# Altium schematic symbol library ic-power-switchmode.SchLib: 18 symbols
Pins are listed as number, name and electrical type; pins without a type are passive.

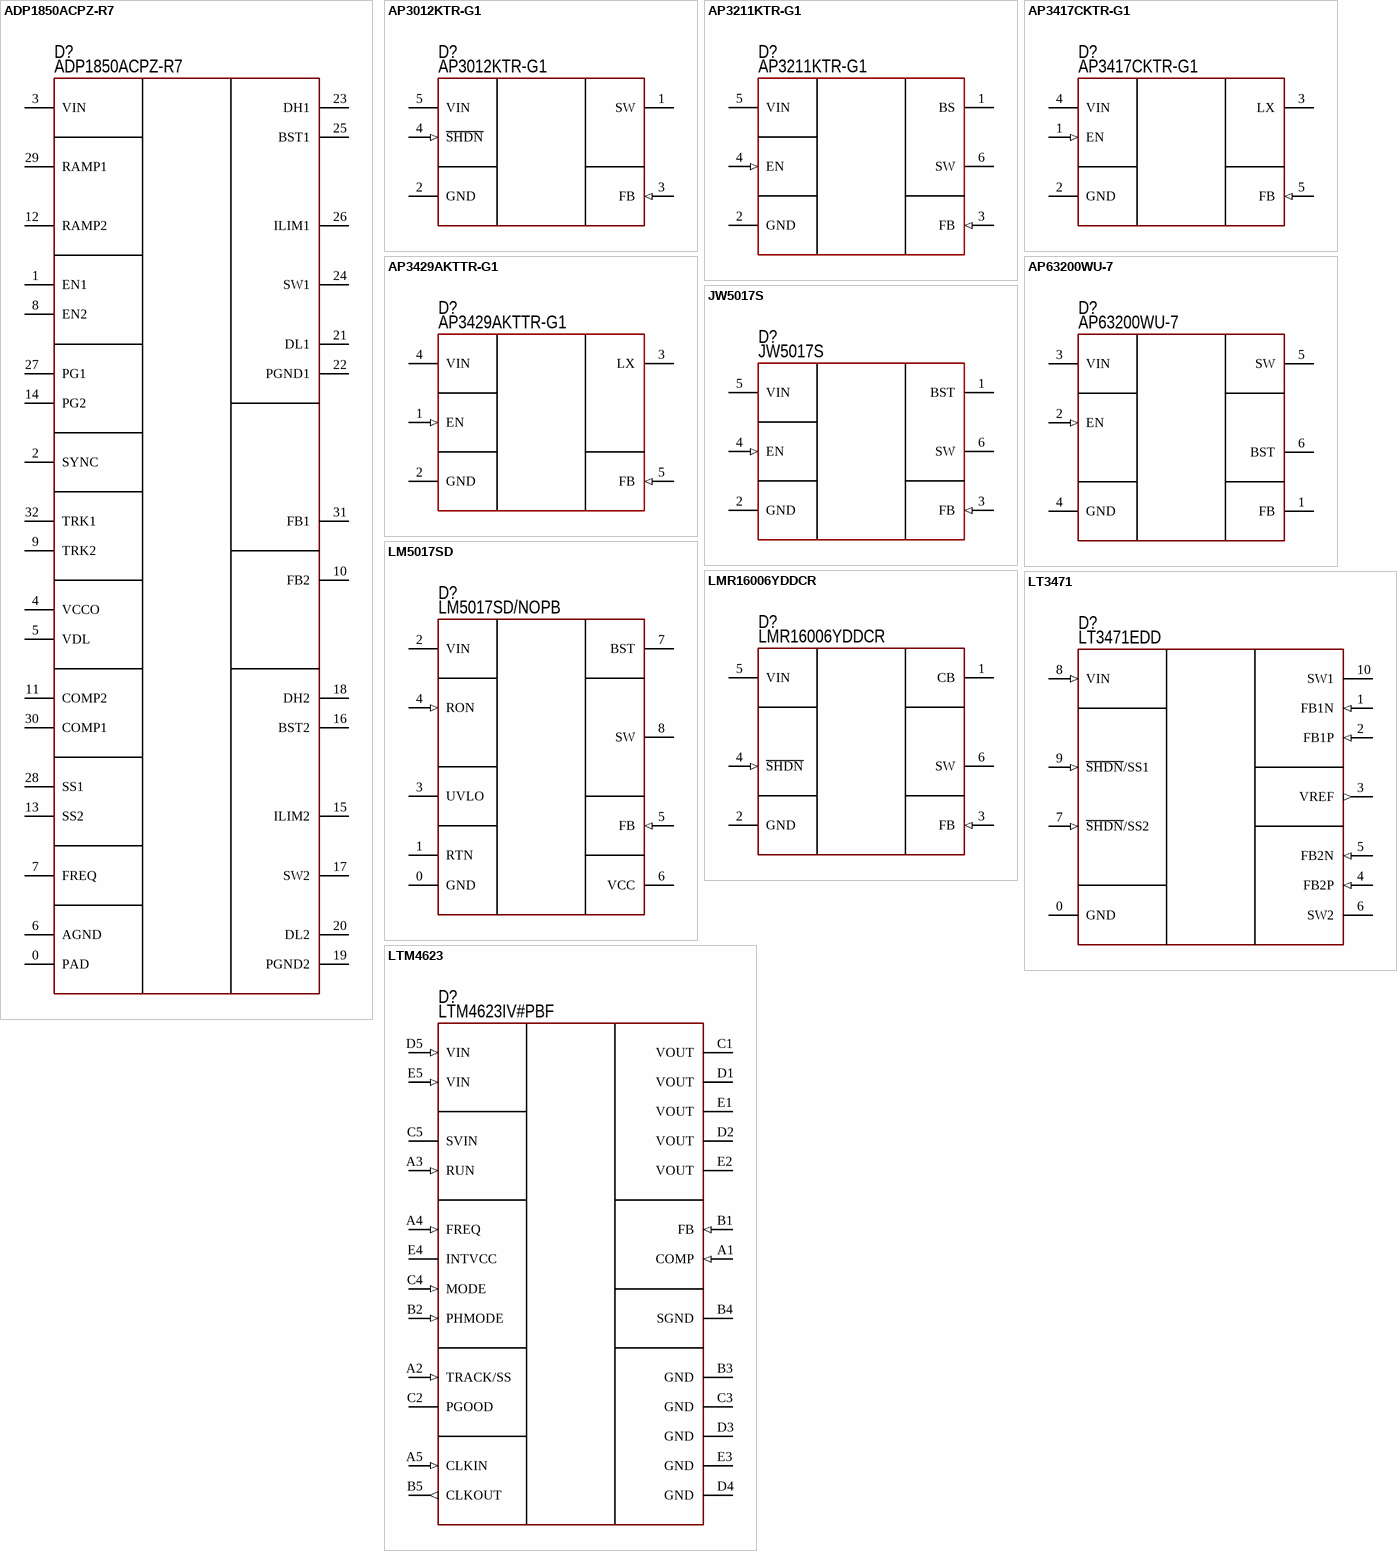
[diagram p0: symbols ADP1850ACPZ-R7 to LTM4623]

## ADP1850ACPZ-R7
designator D?  PartNumber: ADP1850ACPZ-R7
2 phase buck; Manufacturer: Analog Devices; ValueManufacturerPartNumber: DC/DC buck converter, input 2.75...20V, 200...1500 kHz, output 0.6...17V, 2 phase, -40...+85°C, 32-VFQFN (5x5); VoltageInput: input 2.75...20V; Frequency: 200...1500 kHz; CurrentOutput: 2 phase; VoltageOutput: output 0.6...17V; HelpURL: https://www.digikey.com/product-detail/en/analog-devices-inc/ADP1850ACPZ-R7/ADP1850ACPZ-R7CT-ND/2609853; Package: 32-VFQFN (5x5); ComponentType: DC/DC buck converter; Temperature: -40...+85°C
footprint 32-QFN (5x5 mm, pitch 0.5 mm, power pad)
pins: 0 PAD, 1 EN1, 2 SYNC, 3 VIN, 4 VCCO, 5 VDL, 6 AGND, 7 FREQ, 8 EN2, 9 TRK2, 10 FB2, 11 COMP2, 12 RAMP2, 13 SS2, 14 PG2, 15 ILIM2, 16 BST2, 17 SW2, 18 DH2, 19 PGND2, 20 DL2, 21 DL1, 22 PGND1, 23 DH1, 24 SW1, 25 BST1, 26 ILIM1, 27 PG1, 28 SS1, 29 RAMP1, 30 COMP1, 31 FB1, 32 TRK1

## AP3012KTR-G1
designator D?  PartNumber: AP3012KTR-G1
Boost converter; Manufacturer: Diodes Incorporated; ValueManufacturerPartNumber: DC/DC boost converter, input 2.6...16V, 1.5MHz, output 3...29V, 0.5A, -40...+85°C, SOT23-5; VoltageInput: input 2.6...16V; Frequency: 1.5MHz; CurrentOutput: 0.5A; VoltageOutput: output 3...29V; HelpURL: https://www.digikey.com/product-detail/en/diodes-incorporated/AP3012KTR-G1/AP3012KTR-G1DICT-ND/4505297; Package: SOT23-5; ComponentType: DC/DC boost converter; Temperature: -40...+85°C
footprint SOT23-5 (pitch 0.95 mm)
pins: 1 SW, 2 GND, 3 FB (in), 4 ~{SHDN} (in), 5 VIN

## AP3211KTR-G1
designator D?  PartNumber: AP3211KTR-G1
Buck converter; Manufacturer: Diodes Incorporated; ValueManufacturerPartNumber: DC/DC buck converter, input 4.5...18V, 1.4MHz, output 0.81...15V, 1.5A, -40...+85°C, SOT23-6; VoltageInput: input 4.5...18V; Frequency: 1.4MHz; CurrentOutput: 1.5A; VoltageOutput: output 0.81...15V; HelpURL: https://www.digikey.com/product-detail/en/diodes-incorporated/AP3211KTR-G1/AP3211KTR-G1DICT-ND/4505305; Package: SOT23-6; ComponentType: DC/DC buck converter; Temperature: -40...+85°C
footprint SOT23-6 (pitch 0.95 mm)
pins: 1 BS, 2 GND, 3 FB (in), 4 EN (in), 5 VIN, 6 SW

## AP3417CKTR-G1
designator D?  PartNumber: AP3417CKTR-G1
Buck converter; Manufacturer: Diodes Incorporated; ValueManufacturerPartNumber: DC/DC buck converter, input 2.5...5.5V, 1.5MHz, output 0.6...4.95V, 1A, -40...+85°C, SOT23-5; VoltageInput: input 2.5...5.5V; Frequency: 1.5MHz; CurrentOutput: 1A; VoltageOutput: output 0.6...4.95V; HelpURL: https://www.digikey.com/product-detail/en/diodes-incorporated/AP3417CKTR-G1/AP3417CKTR-G1DICT-ND/4505308; Package: SOT23-5; ComponentType: DC/DC buck converter; Temperature: -40...+85°C
footprint SOT23-6 (pitch 0.95 mm)
pins: 1 EN (in), 2 GND, 3 LX, 4 VIN, 5 FB (in)

## AP3429AKTTR-G1
designator D?  PartNumber: AP3429AKTTR-G1
Buck converter; Manufacturer: Diodes Incorporated; ValueManufacturerPartNumber: DC/DC buck converter, input 2.7...5.5V, 1MHz, output 0.6...5V, 2A, -40...+85°C, SOT23-6; VoltageInput: input 2.7...5.5V; Frequency: 1MHz; CurrentOutput: 2A; VoltageOutput: output 0.6...5V; HelpURL: https://www.digikey.com/product-detail/en/diodes-incorporated/AP3429AKTTR-G1/AP3429AKTTR-G1DICT-ND/5359842; Package: SOT23-6; ComponentType: DC/DC buck converter; Temperature: -40...+85°C
footprint SOT23-6 (pitch 0.95 mm)
pins: 1 EN (in), 2 GND, 3 LX, 4 VIN, 5 FB (in)

## AP63200WU-7
designator D?  PartNumber: AP63200WU-7
Buck converter; Manufacturer: Diodes; ValueManufacturerPartNumber: DC/DC buck converter, input 3.8...32V, 500kHz, output 1.2...12V, 2A, -40...+85°C, SOT23-6; VoltageInput: input 3.8...32V; Frequency: 500kHz; CurrentOutput: 2A; VoltageOutput: output 1.2...12V; HelpURL: https://www.digikey.com/en/products/detail/diodes-incorporated/AP63200WU-7/9858423; Package: SOT23-6; ComponentType: DC/DC buck converter; Temperature: -40...+85°C
footprint SOT23-6 (pitch 0.95 mm)
pins: 1 FB, 2 EN (in), 3 VIN, 4 GND, 5 SW, 6 BST

## JW5017S
designator D?  PartNumber: JW5017S
Buck converter; Manufacturer: JoulWatt; ValueManufacturerPartNumber: DC/DC buck converter, input 4.5...26V, 1.2MHz, output 0.8...24V, 1.2A, -40...+85°C, SOT23-6; VoltageInput: input 4.5...26V; Frequency: 1.2MHz; CurrentOutput: 1.2A; VoltageOutput: output 0.8...24V; HelpURL: https://lcsc.com/product-detail/DC-DC-Converters_JoulWatt-Tech-JW5017S_C371172.html; Package: SOT23-6; ComponentType: DC/DC buck converter; Temperature: -40...+85°C
footprint SOT23-6 (pitch 0.95 mm)
pins: 1 BST, 2 GND, 3 FB (in), 4 EN (in), 5 VIN, 6 SW

## LM5017SD
designator D?  PartNumber: LM5017SD/NOPB
Buck converter; Manufacturer: Texas Instruments; ValueManufacturerPartNumber: DC/DC buck converter, input 7.5...100V, 1MHz, output 1.225...90V, 0.6A, -40...+125°C, 8-WSON; VoltageInput: input 7.5...100V; Frequency: 1MHz; CurrentOutput: 0.6A; VoltageOutput: output 1.225...90V; HelpURL: https://www.digikey.com/product-detail/en/texas-instruments/LM5017SD-NOPB/LM5017SD-NOPBCT-ND/3137455; Package: 8-WSON; ComponentType: DC/DC buck converter; Temperature: -40...+125°C
footprint 8-WSON (4x4) (4x4 mm, pitch 0.8 mm, power pad)
pins: 0 GND, 1 RTN, 2 VIN, 3 UVLO, 4 RON (in), 5 FB (in), 6 VCC, 7 BST, 8 SW

## LMR16006YDDCR
designator D?  PartNumber: LMR16006YDDCR
Buck converter; Manufacturer: Texas Instruments; ValueManufacturerPartNumber: DC/DC buck converter, input 4...60V, 2.1MHz, output 0.765...55V, 0.6A, -40...+125°C, SOT23-6; VoltageInput: input 4...60V; Frequency: 2.1MHz; CurrentOutput: 0.6A; VoltageOutput: output 0.765...55V; HelpURL: https://www.digikey.com/en/products/detail/texas-instruments/LMR16006YDDCR/5034007; Package: SOT23-6; ComponentType: DC/DC buck converter; Temperature: -40...+125°C
footprint SOT23-6 (pitch 0.95 mm)
pins: 1 CB, 2 GND, 3 FB (in), 4 ~{SHDN} (in), 5 VIN, 6 SW

## LT3471
designator D?  PartNumber: LT3471EDD
1.3A, 1.2MHz , Dual Switching Regulator; Manufacturer: Analog Devices; ValueManufacturerPartNumber: Boost, Inverting, 2.4...16V, 1.2MHz, 2.4...40V, 1.3 A, -40...+85°C, DFN-10; VoltageInput: 2.4...16V; VoltageOutput: 2.4...40V; HelpURL: https://eu.mouser.com/ProductDetail/Analog-Devices/LT3471EDDTRPBF?qs=hVkxg5c3xu9cs7a23C8URQ%3D%3D; Package: DFN-10; ComponentType: Boost, Inverting; Temperature: -40...+85°C; Frequency: 1.2MHz; CurrentOutput: 1.3 A
footprint 10-DFN (0.5P 3.0X3.0 175X248S) (SON, 0.50mm Pitch; 10-pin, 3.00mm W  X 3.00mm L X 0.80mm H Body, (w/thermal tab 1.75 X 2.48 mm), IPC Medium Density)
pins: 0 GND, 1 FB1N (in), 2 FB1P (in), 3 VREF (out), 4 FB2P (in), 5 FB2N (in), 6 SW2 (oc), 7 ~{SHDN}/SS2 (in), 8 VIN (in), 9 ~{SHDN}/SS1 (in), 10 SW1 (oc)

## LTM4623
designator D?  PartNumber: LTM4623IV#PBF
4V-20V to 0.6V-5.5V, Iout 3A Step-Down DC/DC uModule Regulator; Manufacturer: Analog Devices; ValueManufacturerPartNumber: DC/DC uModule, input 4...20V, 1 MHz, output 0.6...5.5V, 3A, -40...+125°C, LGA-25; VoltageInput: input 4...20V; Frequency: 1 MHz; VoltageOutput: output 0.6...5.5V; HelpURL: https://www.mouser.co.uk/ProductDetail/Analog-Devices/LTM4623IVPBF?qs=hVkxg5c3xu%2Fq41J5XRbt5g%3D%3D; Package: LGA-25; ComponentType: DC/DC uModule; Temperature: -40...+125°C; CurrentOutput: 3A
footprint LGA25C127P5X5_625X625X192 (LGA, 1.27mm Pitch, Square; 25 Pin, 5 Columns X 5 Rows, 6.25mm X 6.25mm X 1.92mm H)
footprint BGA25C127P5X5_625X625X262 (BGA, 1.27mm Pitch, Square; 25 Pin, 5 Columns X 5 Rows, 6.25mm X 6.25mm X 2.62mm H)
pins: A1 COMP (in), A2 TRACK/SS (in), A3 RUN (in), A4 FREQ (in), A5 CLKIN (in), B1 FB (in), B2 PHMODE (in), B3 GND (power), B4 SGND (power), B5 CLKOUT (out), C1 VOUT (power), C2 PGOOD (oc), C3 GND (power), C4 MODE (in), C5 SVIN (power), D1 VOUT (power), D2 VOUT (power), D3 GND (power), D4 GND (power), D5 VIN (in), E1 VOUT (power), E2 VOUT (power), E3 GND (power), E4 INTVCC (power), E5 VIN (in)

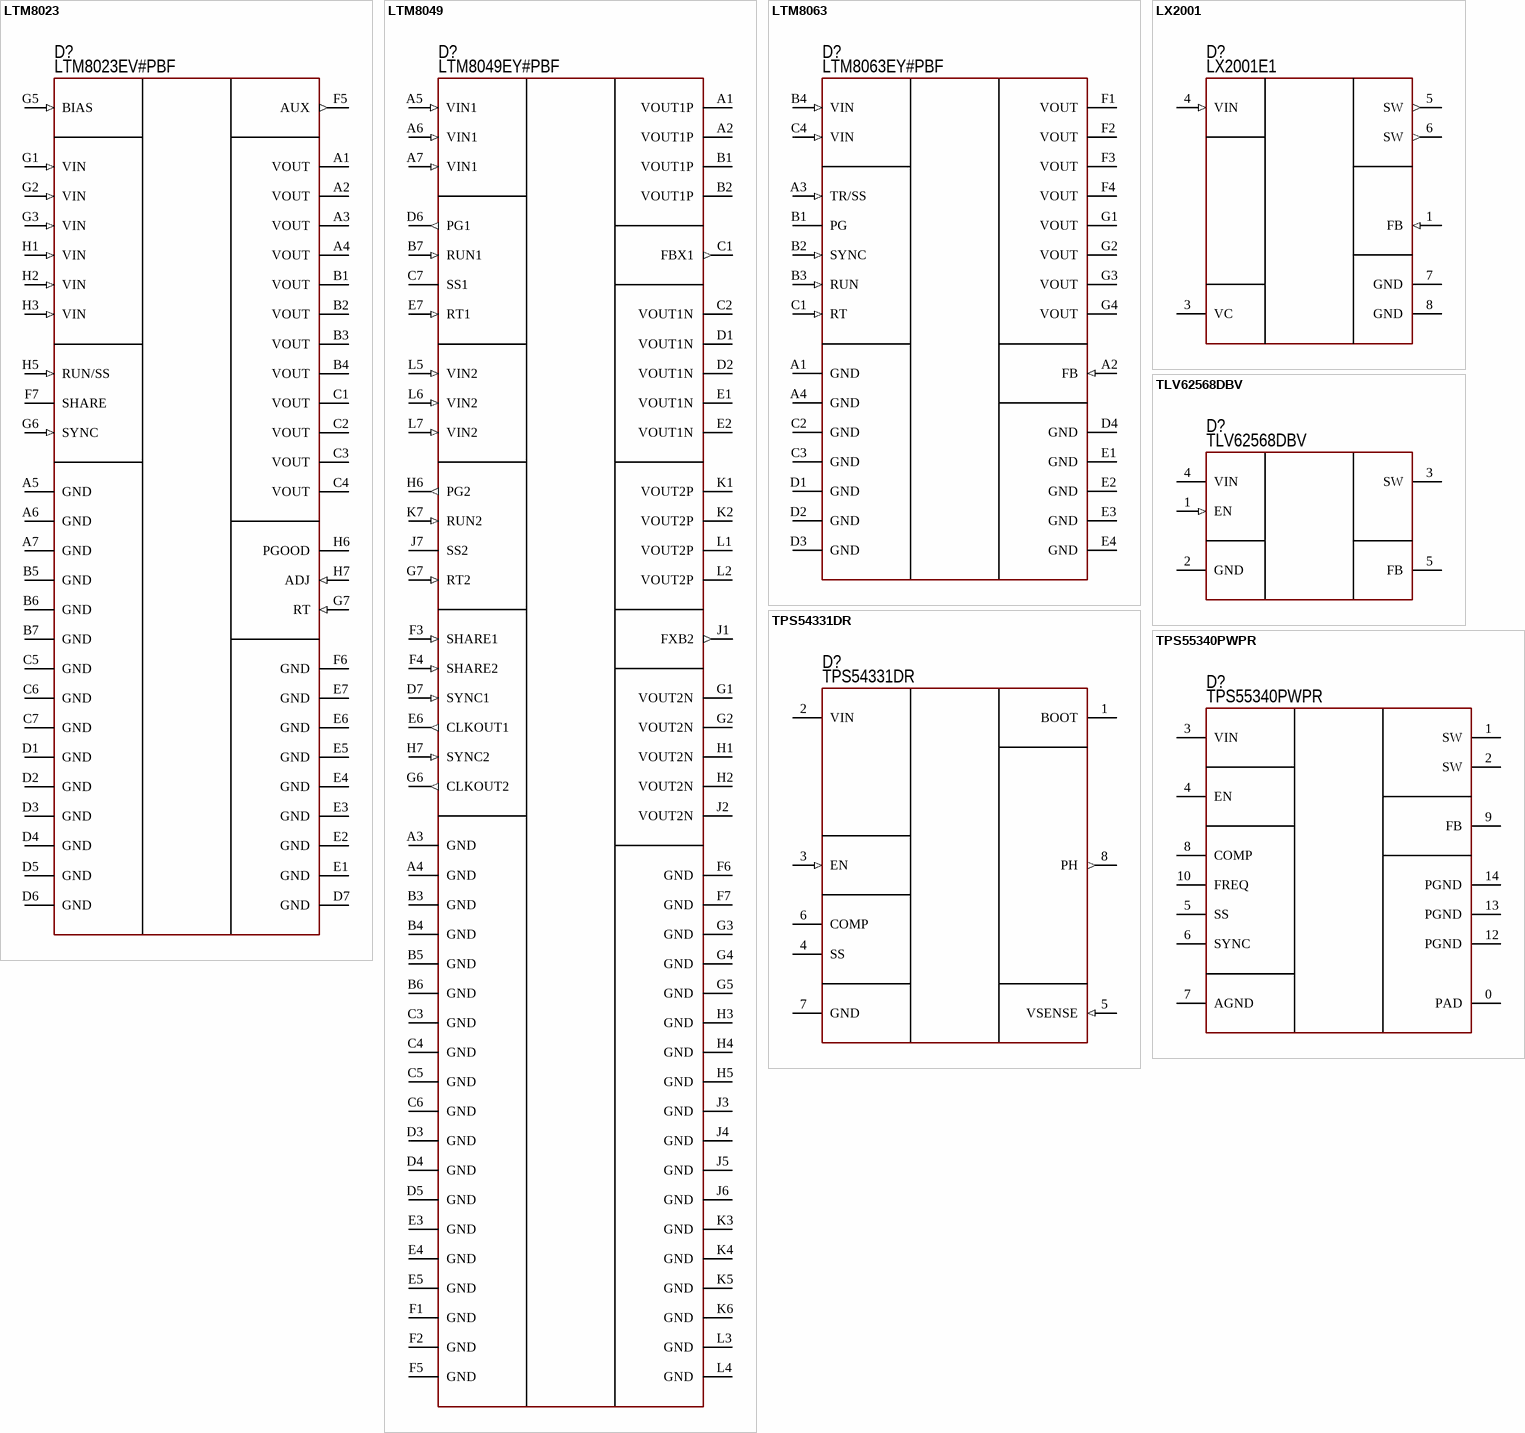
[diagram p1: symbols LTM8023 to TPS55340PWPR]

## LTM8023
designator D?  PartNumber: LTM8023EV#PBF
3.6V-36V To 0.8V-10V, Iout 2A DC/DC uModule; Manufacturer: Analog Devices; ValueManufacturerPartNumber: DC/DC uModule, input 3.6...36V, 200...2400 kHz, output 0.8...10V, 2A, -40...+85°C, LGA-50; VoltageInput: input 3.6...36V; Frequency: 200...2400 kHz; VoltageOutput: output 0.8...10V; HelpURL: https://www.mouser.co.uk/ProductDetail/Analog-Devices/LTM8023IVPBF?qs=hVkxg5c3xu9yNEfdTpM1tw%3D%3D; Package: LGA-50; ComponentType: DC/DC uModule; Temperature: -40...+85°C; CurrentOutput: 2A
footprint LGA50S127P7X8_900X1125X292 (LGA, 1.27mm pitch,rect.; 50 pin,7 columns X 8 rows, 9.00mm X 11.25mm X 2.92mm H)
footprint BGA50C127P7X8_900X1125X362 (BGA, 1.27mm Pitch, rectangular; 50 Pin, 7 Columns X 8 Rows,9.00mm X 11.25mm X 3.62mm H)
pins: A1 VOUT (power), A2 VOUT (power), A3 VOUT (power), A4 VOUT (power), A5 GND (power), A6 GND (power), A7 GND (power), B1 VOUT (power), B2 VOUT (power), B3 VOUT (power), B4 VOUT (power), B5 GND (power), B6 GND (power), B7 GND (power), C1 VOUT (power), C2 VOUT (power), C3 VOUT (power), C4 VOUT (power), C5 GND (power), C6 GND (power), C7 GND (power), D1 GND (power), D2 GND (power), D3 GND (power), D4 GND (power), D5 GND (power), D6 GND (power), D7 GND (power), E1 GND (power), E2 GND (power), E3 GND (power), E4 GND (power), E5 GND (power), E6 GND (power), E7 GND (power), F5 AUX (out), F6 GND (power), F7 SHARE, G1 VIN (in), G2 VIN (in), G3 VIN (in), G5 BIAS (in), G6 SYNC (in), G7 RT (in), H1 VIN (in), H2 VIN (in), H3 VIN (in), H5 RUN/SS (in), H6 PGOOD (oc), H7 ADJ (in)

## LTM8049
designator D?  PartNumber: LTM8049EY#PBF
Dual SEPIC or Inverting uModule DC/DC Converter; Manufacturer: Analog Devices; ValueManufacturerPartNumber: Dual SEPIC or Inverting uModule DC/DC Converter, input 2.6...20V, 200...2500 kHz, output 2.5...24V, 2 phase, -40...+125°C, BGA-77; VoltageInput: input 2.6...20V; Frequency: 200...2500 kHz; CurrentOutput: 2 phase; VoltageOutput: output 2.5...24V; HelpURL: https://eu.mouser.com/ProductDetail/Analog-Devices/LTM8049EYPBF?qs=oahfZPh6IALXr4Vof8GcdA%3D%3D; Package: BGA-77; ComponentType: Dual SEPIC or Inverting uModule DC/DC Converter; Temperature: -40...+125°C
footprint BGA77C127P7X11_900X1500X262 (BGA, 1.27mm Pitch, Rect.; 77 Pin, 7 Columns X 11 Rows, 9.00mm X 15.00mm X 2.62mm H)
pins: A1 VOUT1P (power), A2 VOUT1P (power), A3 GND (power), A4 GND (power), A5 VIN1 (in), A6 VIN1 (in), A7 VIN1 (in), B1 VOUT1P (power), B2 VOUT1P (power), B3 GND (power), B4 GND (power), B5 GND (power), B6 GND (power), B7 RUN1 (in), C1 FBX1 (out), C2 VOUT1N (power), C3 GND (power), C4 GND (power), C5 GND (power), C6 GND (power), C7 SS1, D1 VOUT1N (power), D2 VOUT1N (power), D3 GND (power), D4 GND (power), D5 GND (power), D6 PG1 (out), D7 SYNC1 (in), E1 VOUT1N (power), E2 VOUT1N (power), E3 GND (power), E4 GND (power), E5 GND (power), E6 CLKOUT1 (out), E7 RT1 (in), F1 GND (power), F2 GND (power), F3 SHARE1 (in), F4 SHARE2 (in), F5 GND (power), F6 GND (power), F7 GND (power), G1 VOUT2N (power), G2 VOUT2N (power), G3 GND (power), G4 GND (power), G5 GND (power), G6 CLKOUT2 (out), G7 RT2 (in), H1 VOUT2N (power), H2 VOUT2N (power), H3 GND (power), H4 GND (power), H5 GND (power), H6 PG2 (out), H7 SYNC2 (in), J1 FXB2 (out), J2 VOUT2N (power), J3 GND (power), J4 GND (power), J5 GND (power), J6 GND (power), J7 SS2, K1 VOUT2P (power), K2 VOUT2P (power), K3 GND (power), K4 GND (power), K5 GND (power), K6 GND (power), K7 RUN2 (in), L1 VOUT2P (power), L2 VOUT2P (power), L3 GND (power), L4 GND (power), L5 VIN2 (in), L6 VIN2 (in), L7 VIN2 (in)

## LTM8063
designator D?  PartNumber: LTM8063EY#PBF
40VIN, 2A Silent Switcher / µModule Regulator; Manufacturer: Analog Devices; ValueManufacturerPartNumber: Step-Down uModule Regulator, 3.2...40V, 200kHz...2.2MHz, 0.8...15V, 2A, -40...+125°C, BGA-28; VoltageInput: 3.2...40V; Frequency: 200kHz...2.2MHz; VoltageOutput: 0.8...15V; HelpURL: https://eu.mouser.com/ProductDetail/Analog-Devices/LTM8063EYPBF?qs=xhbEVWpZdWcT1bbWWNrwmQ%3D%3D; Package: BGA-28; ComponentType: Step-Down uModule Regulator; Temperature: -40...+125°C; CurrentOutput: 2A
footprint BGA28C80P4X7_400X625X242 (BGA, 28-Leads, Body 4,00x6,25mmx2,42mm, Pitch 0,80mm)
pins: A1 GND, A2 FB (in), A3 TR/SS (in), A4 GND, B1 PG (oc), B2 SYNC (in), B3 RUN (in), B4 VIN (in), C1 RT (in), C2 GND, C3 GND, C4 VIN (in), D1 GND, D2 GND, D3 GND, D4 GND, E1 GND, E2 GND, E3 GND, E4 GND, F1 VOUT (power), F2 VOUT (power), F3 VOUT (power), F4 VOUT (power), G1 VOUT (power), G2 VOUT (power), G3 VOUT (power), G4 VOUT (power)

## LX2001
designator D?  PartNumber: LX2001E1
Buck converter; Manufacturer: XLSEMI; ValueManufacturerPartNumber: DC/DC buck converter, input 8...45V, 150KHz, 5V, 1.8A, -40...+125°C, 8-SOIC; VoltageInput: input 8...45V; Frequency: 150KHz; CurrentOutput: 1.8A; VoltageOutput: 5V; HelpURL: https://lcsc.com/product-detail/DC-DC-Converters_XLSEMI-XL2001E1_C73336.html; Package: 8-SOIC; ComponentType: DC/DC buck converter; Temperature: -40...+125°C
footprint 8-SOIC (pitch 1.27 mm)
pins: 1 FB (in), 3 VC, 4 VIN (in), 5 SW (out), 6 SW (out), 7 GND, 8 GND

## TLV62568DBV
designator D?  PartNumber: TLV62568DBV
Buck converter; Manufacturer: Texas Instruments; ValueManufacturerPartNumber: DC/DC buck converter, input 2.5...5.5V, 1.5MHz, output 0.6V, 1A, -40...+85°C, SOT23-5; VoltageInput: input 2.5...5.5V; Frequency: 1.5MHz; CurrentOutput: 1A; VoltageOutput: output 0.6V; HelpURL: https://www.digikey.com/product-detail/en/texas-instruments/TLV62568DBVT/296-47387-1-ND/7688580; Package: SOT23-5; ComponentType: DC/DC buck converter; Temperature: -40...+85°C
footprint SOT23-5 (pitch 0.95 mm)
pins: 1 EN (in), 2 GND, 3 SW, 4 VIN, 5 FB

## TPS54331DR
designator D?  PartNumber: TPS54331DR
Switching Voltage Regulators; Manufacturer: Texas Instruments; ValueManufacturerPartNumber: Step Down DC-DC Converter, 3.5...28V, 570 kHz, Adjustable output voltage down to 0.8V, 3A, -40...+150°C, SOIC-8; VoltageInput: 3.5...28V; Frequency: 570 kHz; CurrentOutput: 3A; VoltageOutput: Adjustable output voltage down to 0.8V; HelpURL: https://www.digikey.com/en/products/detail/texas-instruments/TPS54331DR/2047963; Package: SOIC-8; ComponentType: Step Down DC-DC Converter; Temperature: -40...+150°C
footprint 8-SOIC (pitch 1.27 mm)
pins: 1 BOOT (power), 2 VIN (power), 3 EN (in), 4 SS, 5 VSENSE (in), 6 COMP, 7 GND, 8 PH (out)

## TPS55340PWPR
designator D?  PartNumber: TPS55340PWPR
Boost converter; Manufacturer: Texas Instruments; ValueManufacturerPartNumber: DC/DC boost converter, input 2.9...32V, 94...1140 kHz, max output 38V, 2A, -40...+125°C, 14-HTSSOP; VoltageInput: input 2.9...32V; Frequency: 94...1140 kHz; CurrentOutput: 2A; VoltageOutput: max output 38V; HelpURL: https://www.digikey.com/product-detail/en/texas-instruments/TPS55340PWPR/296-39426-1-ND/5143375; Package: 14-HTSSOP; ComponentType: DC/DC boost converter; Temperature: -40...+125°C
footprint 14-TSOP-PAD (pitch 0.65 mm, power pad)
pins: 0 PAD, 1 SW, 2 SW, 3 VIN, 4 EN, 5 SS, 6 SYNC, 7 AGND, 8 COMP, 9 FB, 10 FREQ, 12 PGND, 13 PGND, 14 PGND